# Altium footprint library Cnverter.PcbLib: 105 footprints (part 4 of 7)
Each footprint in its own frame and in the unit in brackets; x right, y up, seen from the top. Pads: shape width x height; smd on the part's side, far side on the other; paste and mask are expansions set on the pad; w line width, h text height; cw(c..) or ccw(c..) is an arc to the next point about the centre after c.
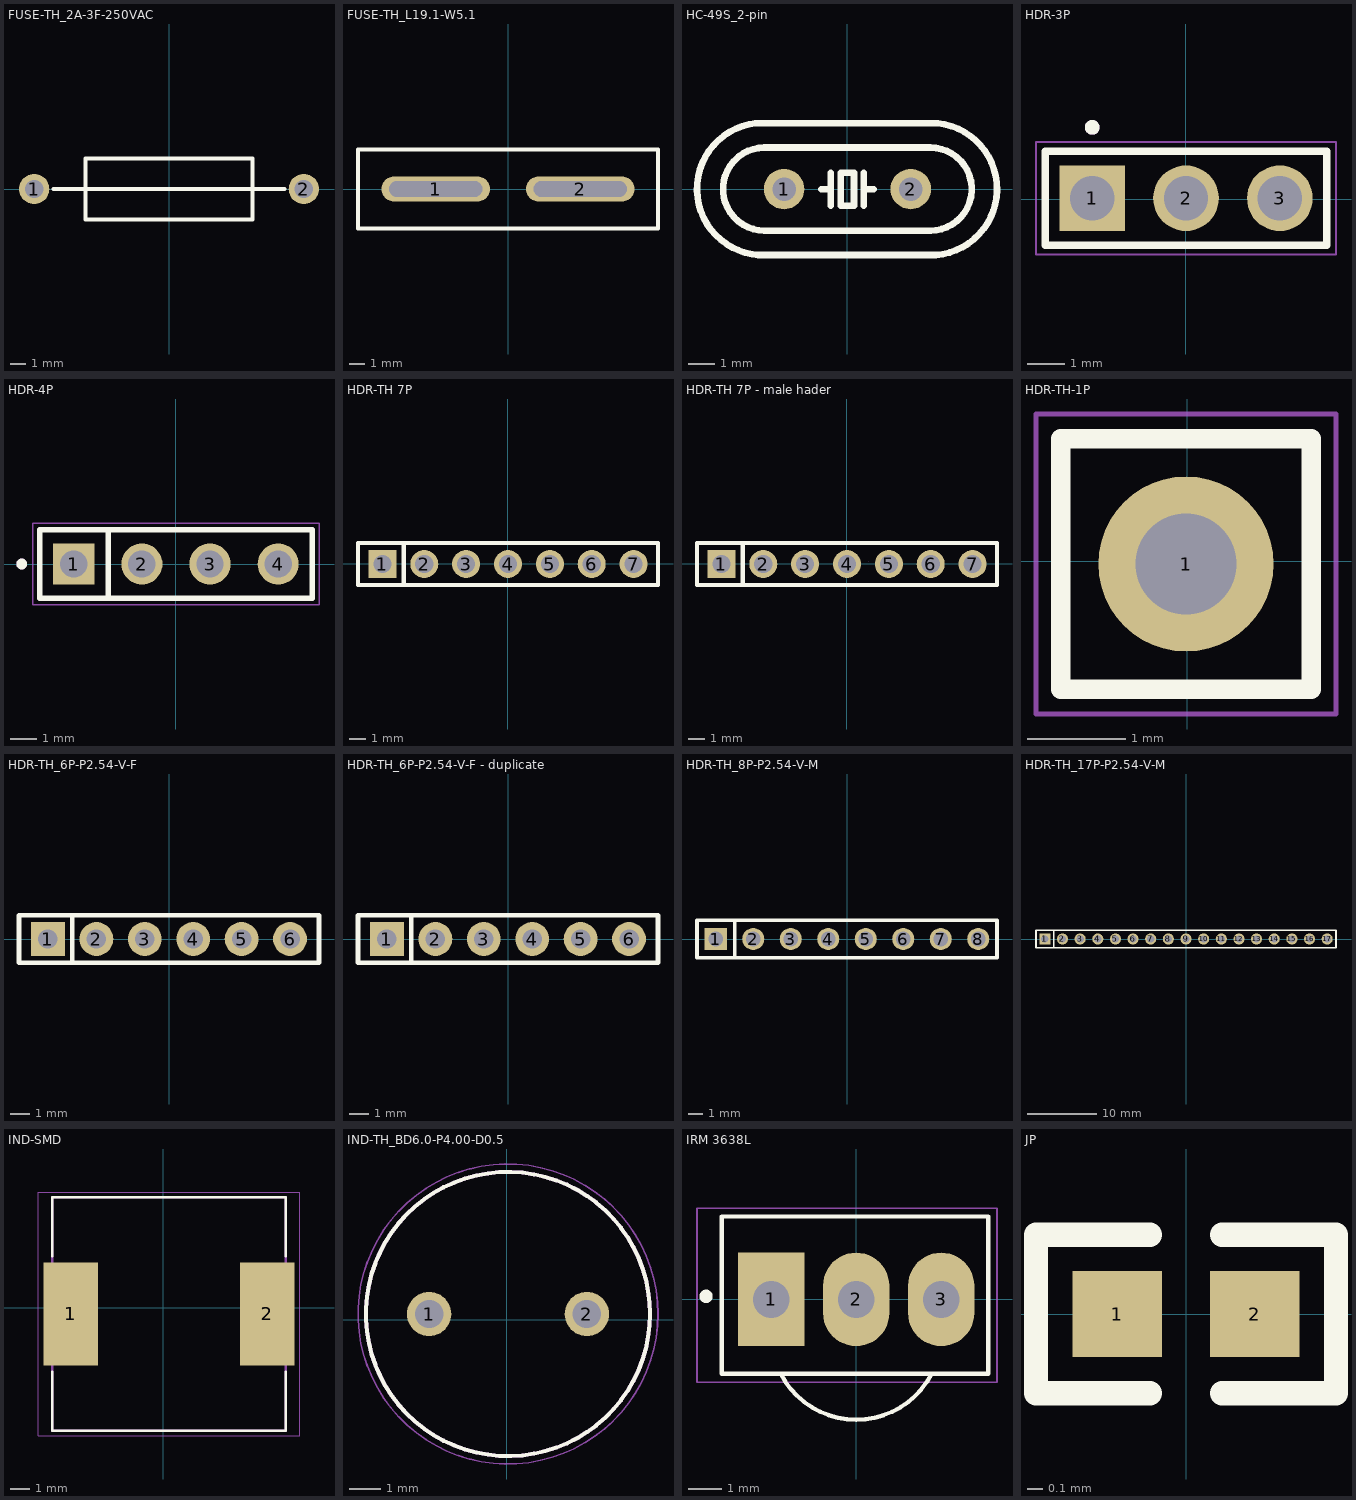
[diagram p3: the footprints below, top view; thin cyan lines are the x and y axes]

## FUSE-TH_2A-3F-250VAC [mm]
pads (2):
  round 2 hole 1.2 paste+0 mask+0.051: 1(-8.89,0) 2(8.89,0)
Top Overlay:
  lines w0.254: -7.62,0 7.62,0 ; -5.5,-2 5.5,-2 5.5,2 -5.5,2 -5.5,-2

## FUSE-TH_L19.1-W5.1 [mm]
pads (2):
  oval 7x1.6 hole 1 slot 6 at 0 deg paste+0 mask+0.05: 1(-4.65,0) 2(4.65,0)
Top Overlay:
  lines w0.254: -9.652,-2.54 -9.652,2.54 9.652,2.54 9.652,-2.54 -9.652,-2.54
3D body "Fuse_Littelfuse_Inc_0287040.PXCN_eec.STEP": height 12.53, standoff -6.27, extent -9.55,-2.54 9.55,2.56

## HC-49S_2-pin [mm]
pads (2):
  round 1.56 hole 0.9 paste+0 mask+0.051: 1(-2.424,0) 2(2.456,0)
Top Overlay:
  lines w0.254: -3.54,2.54 3.488,2.54 ; -3.508,2.54 ccw(c-3.232,0.006) -3.381,-2.54 ; -3.413,-2.54 3.427,-2.54 ccw(c3.231,0.003) 3.488,2.54 ; -1,0 -0.619,0 ; -0.619,-0.635 -0.619,0 ; -0.619,0.635 -0.619,0 ; 0.651,-0.635 0.651,0 ; 0.651,0.635 0.651,0 ; 1.032,0 0.651,0 ; -0.238,-0.635 -0.238,0.635 0.27,0.635 0.27,-0.635 -0.238,-0.635
  lines w0.258: -3.185,1.6 ccw(c-3.178,0) -3.184,-1.6 3.216,-1.6 ccw(c3.21,0) 3.216,1.6 -3.184,1.6
3D body "CRYSTAL_HC49S_MTC.step": height 3.99, standoff -3.99, extent -5.816,-2.668 5.848,2.668

## HDR-3P [mil]
pads (3):
  rect 70x70 hole 47.24: 1(-99.64,1.11)
  round 70 hole 47.24: 2(0.36,1.11) 3(100.36,1.11)
Top Overlay:
  circle w7.87: c-99.64,76.7 r3.94
  lines w7.87: -149.64,-48.89 150.36,-48.89 150.36,51.11 -149.64,51.11 -149.64,-48.89
Top Assembly:
  circle w7.87: c-99.64,76.7 r3.94
  lines w3.94: -149.64,-48.89 150.36,-48.89 ; -149.64,-48.89 -149.64,51.11 ; -149.64,-48.89 150.36,-48.89 ; -149.64,51.11 150.36,51.11 ; -149.64,51.11 150.36,51.11 ; 150.36,-48.89 150.36,51.11 ; 150.36,-48.89 150.36,51.11
Top Courtyard:
  lines w1.97: -159.48,-58.73 160.2,-58.73 160.2,60.95 -159.48,60.95 -159.48,-58.73
3D body "TSW-101-07-S-T.stp": height 330, standoff -100, extent -149.64,-48.89 150.36,51.11

## HDR-4P [mm]
pads (4):
  rect 1.53x1.53 hole 1.02: 1(-3.81,0)
  round 1.53 hole 1.02: 2(-1.27,0) 3(1.27,0) 4(3.81,0)
Top Overlay:
  circle w0.2: c-5.75,0 r0.1
  lines w0.2: -2.519,-1.271 -2.519,1.264 ; -5.08,-1.27 -5.08,1.27 5.08,1.27 5.08,-1.27 -5.08,-1.27
Top Assembly:
  circle w0.2: c-5.75,0 r0.1
  lines w0.1: -5.08,-1.27 -5.08,1.27 5.08,1.27 5.08,-1.27 -5.08,-1.27
Top Courtyard:
  lines w0.05: -5.33,-1.52 -5.33,1.52 5.33,1.52 5.33,-1.52 -5.33,-1.52
3D body "TSW-104-08-T-S-LL.stp": height 8.38, standoff -5.08, extent -5.052,-1.264 5.235,1.276

## HDR-TH 7P [mm]
pads (7):
  rect 1.7x1.7 hole 1.1 paste+0 mask+0.051: 1(-7.596,-0.028)
  round 1.7 hole 1.1 paste+0 mask+0.051: 2(-5.056,-0.028) 3(-2.516,-0.028) 4(0.024,-0.028) 5(2.564,-0.028) 6(5.104,-0.028) 7(7.644,-0.028)
Top Overlay:
  lines w0.254: -6.302,-1.298 -6.302,1.242 ; -9.076,-1.298 9.124,-1.298 9.124,1.242 -9.076,1.242 -9.076,-1.298
Top Courtyard:
  lines w0.003: 1.358,0.099 1.358,0.099
3D body "HTSW-107-22-L-S-RA.stp": height 3.02, standoff -4.85, extent -8.856,-0.344 8.924,9.879

## HDR-TH 7P - male hader [mm]
pads (7):
  rect 1.7x1.7 hole 1.1 paste+0 mask+0.051: 1(-7.596,-0.028)
  round 1.7 hole 1.1 paste+0 mask+0.051: 2(-5.056,-0.028) 3(-2.516,-0.028) 4(0.024,-0.028) 5(2.564,-0.028) 6(5.104,-0.028) 7(7.644,-0.028)
Top Overlay:
  lines w0.254: -6.302,-1.298 -6.302,1.242 ; -9.076,-1.298 9.124,-1.298 9.124,1.242 -9.076,1.242 -9.076,-1.298
Top Courtyard:
  lines w0.003: 1.358,0.099 1.358,0.099

## HDR-TH-1P [mil]
pads (1):
  round 70 hole 40.16: 1(-0.52,-1.12)
Top Overlay:
  lines w7.87: -50.52,-51.12 49.48,-51.12 49.48,48.88 -50.52,48.88 -50.52,-51.12
Top Assembly:
  lines w3.94: -50.52,-51.12 49.48,-51.12 49.48,48.88 -50.52,48.88 -50.52,-51.12
Top Courtyard:
  lines w1.97: -60.36,-60.97 59.32,-60.97 59.32,58.72 -60.36,58.72 -60.36,-60.97
3D body "TS-101-G-A-1.stp": height 326, standoff -204, extent -54.52,-51.12 53.48,48.88

## HDR-TH_6P-P2.54-V-F [mil]
pads (6):
  rect 70.87x70.87 hole 40.16 paste+0 mask+2: 1(-250,0)
  round 70 hole 40.16 paste+0 mask+2: 2(-150,0) 3(-50,0) 4(50,0) 5(150,0) 6(250,0)
Top Overlay:
  lines w10: -200,-49.21 -200,49.21 ; -309.84,-49.21 -309.84,49.21 309.84,49.21 309.84,-49.21 -309.84,-49.21
3D body "10082201-105-06LF--3DModel-STEP-554624.STEP": height 94.49, standoff -127.95, extent -300.26,-2.45 299.74,626.29

## HDR-TH_6P-P2.54-V-F - duplicate [mil]
pads (6):
  rect 70.87x70.87 hole 40.16 paste+0 mask+2: 1(-250,0)
  round 70 hole 40.16 paste+0 mask+2: 2(-150,0) 3(-50,0) 4(50,0) 5(150,0) 6(250,0)
Top Overlay:
  lines w10: -200,-49.21 -200,49.21 ; -309.84,-49.21 -309.84,49.21 309.84,49.21 309.84,-49.21 -309.84,-49.21
3D body "MTSW-106-24-G-S-255.stp": height 355, standoff -125, extent -300,-50.79 300,49.21

## HDR-TH_8P-P2.54-V-M [mm]
pads (8):
  rect 1.5x1.5 hole 1 paste+0 mask+0.051: 1(-8.89,0)
  round 1.5 hole 1 paste+0 mask+0.051: 2(-6.35,0) 3(-3.81,0) 4(-1.27,0) 5(1.27,0) 6(3.81,0) 7(6.35,0) 8(8.89,0)
Top Overlay:
  lines w0.254: -7.596,-1.27 -7.596,1.27 ; -10.16,-1.27 10.16,-1.27 10.16,1.27 -10.16,1.27 -10.16,-1.27
3D body "TSW-108-07-G-S-LL.stp": height 8.38, standoff -2.54, extent -10.262,-1.248 10.185,1.292

## HDR-TH_17P-P2.54-V-M [mm]
pads (17):
  rect 1.6x1.6 hole 1.05 paste+0 mask+0.051: 1(-20.32,0)
  round 1.6 hole 1.05 paste+0 mask+0.051: 2(-17.78,0) 3(-15.24,0) 4(-12.7,0) 5(-10.16,0) 6(-7.62,0) 7(-5.08,0) 8(-2.54,0) 9(0,0) 10(2.54,0) 11(5.08,0) 12(7.62,0) 13(10.16,0) 14(12.7,0) 15(15.24,0) 16(17.78,0) 17(20.32,0)
Top Overlay:
  lines w0.254: -19.05,-1.25 -19.05,1.25 ; -21.59,-1.25 -21.59,1.25 21.59,1.25 21.59,-1.25 -21.59,-1.25
3D body "TSW-117-25-T-S-RA.stp": height 1.27, standoff -4.29, extent -21.605,-12.181 21.575,0.328

## IND-SMD [mm]
pads (2):
  rect 2.8x5.3 smd paste+0 mask+0.102: 1(-4.746,-0.313) 2(5.354,-0.313)
Top Overlay:
  lines w0.127: -5.696,-3.283 -5.696,-6.313 6.304,-6.313 6.304,-3.283 ; -5.696,2.657 -5.696,5.687 6.304,5.687 6.304,2.657
Top Assembly:
  lines w0.127: -5.696,-6.313 6.304,-6.313 6.304,5.687 -5.696,5.687 -5.696,-6.313
Top Courtyard:
  lines w0.05: -6.396,-6.563 -6.396,5.937 7.004,5.937 7.004,-6.563 -6.396,-6.563
3D body "step_temp.STEP": height 10, standoff 0, extent -5.696,-6.313 6.304,5.687

## IND-TH_BD6.0-P4.00-D0.5 [mm]
pads (2):
  round 1.408 hole 0.9: 1(-2.465,0.182) 2(2.535,0.182)
Top Overlay:
  circle w0.127: c0.035,0.182 r4.5
Top Assembly:
  circle w0.127: c0.035,0.182 r4.5
Top Courtyard:
  circle w0.05: c0.035,0.182 r4.75
3D body "step_temp.STEP": height 12.2, standoff -30, extent -4.465,-4.318 4.535,4.682

## IRM 3638L [mm]
pads (3):
  rect 1.98x2.8 hole 1.1: 1(-2.54,0)
  oval 1.98x2.8 hole 1.1: 2(0,0) 3(2.54,0)
Top Overlay:
  circle w0.2: c-4.49,0.09 r0.1
  lines w0.127: -2.257,-2.225 ccw(c0,-1.06) 2.257,-2.225 ; 3,2.475 -3,2.475 ; -3,2.475 3.95,2.475 3.95,-2.225 -4.02,-2.225 -4.02,2.475 -3,2.475
Top Courtyard:
  lines w0.05: -4.76,-2.475 -4.76,2.725 4.21,2.725 4.21,-2.475 -4.76,-2.475

## JP [mm]
pads (2):
  rect 0.566x0.54 smd paste-100 mask+0.051: 1(-0.433,0) 2(0.433,0)
Top Overlay:
  lines w0.152: -0.226,-0.499 -0.944,-0.499 -0.944,0.499 -0.226,0.499 ; 0.226,-0.499 0.944,-0.499 0.944,0.499 0.226,0.499